# Altium schematic symbol library RA73F2A10K2BTD.SchLib: 1 symbol
Pins are listed as number, name and electrical type; pins without a type are passive.

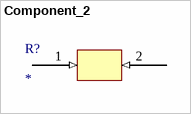
[diagram p0: symbol Component_2]

## Component_2
designator R?
footprint PCBComponent_1
pins: 1 (in), 2 (in)